# Altium footprint library Solder Jumper.PcbLib: 1 footprints
Each footprint in its own frame and in the unit in brackets; x right, y up, seen from the top. Pads: shape width x height; smd on the part's side, far side on the other; paste and mask are expansions set on the pad; w line width, h text height; cw(c..) or ccw(c..) is an arc to the next point about the centre after c.
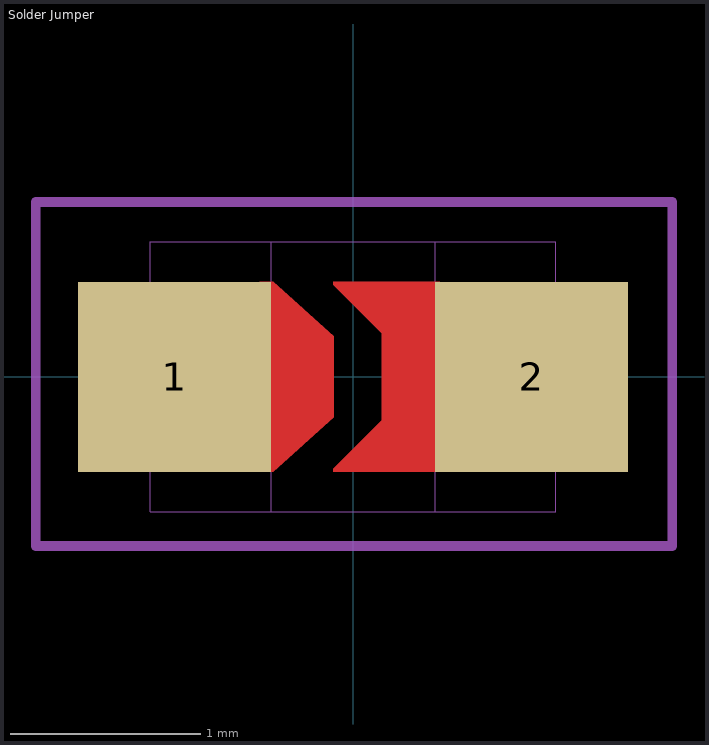
[diagram p0: the footprint, top view; thin cyan lines are the x and y axes]

## Solder Jumper [mil] "Solder jumper 2 pin compatible with 0805 passives"
pads (2):
  rect 40x39.37 smd: 1(-37,0) 2(37,0)
Top Layer:
  region: 18,19.68 -4.06,19.68 -4.06,19.06 6,9 6,-15.35 18,-15.35
  region: 18,-19.68 -4.06,-19.68 -4.06,-19.06 6,-9 6,15.35 18,15.35
  region: -16.54,19.68 -4.01,8.37 -3.99,-8.37 -16.54,-19.68 -19.29,-19.68 -19.29,19.68
Mechanical 1:
  lines w0: -17,-28 -17,28 ; -17,-28 -42,-28 -42,28 -17,28 ; -17,-28 17,-28 ; -17,28 17,28 ; 17,-28 17,28 ; 17,-28 42,-28 42,28 17,28
Mechanical 15:
  lines w2.01: -65.75,-35.04 -65.75,36.22 66.14,36.22 66.14,-35.04 -65.75,-35.04